# EAGLE library part S13B-XH (library con-jst-xh)
JST XH series header 2.50mm pitch disconnectable crimp style connectors, horizontal (side entry type), 135 pins
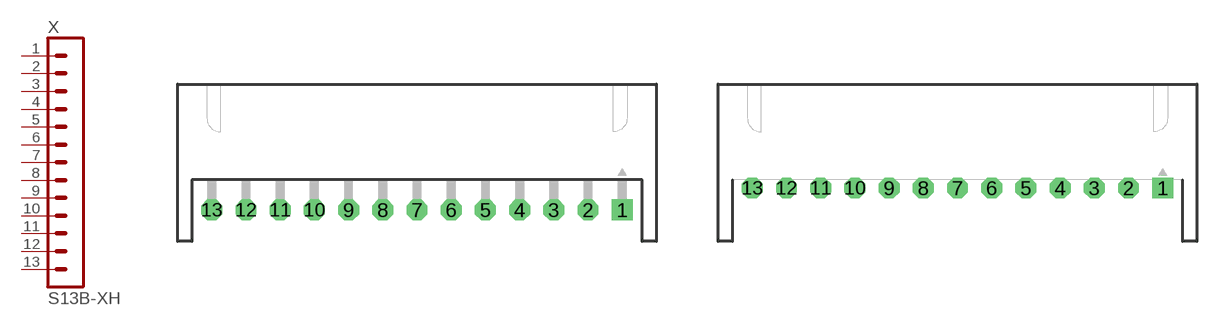
[diagram p19: symbol with the pads of S13B-XH-A; footprints S13B-XH-A, S13B-XH-A-1]

Designator prefix X

## S13B-XH-A  [S13B-XH-A]
1  1  pas
2  2  pas
3  3  pas
4  4  pas
5  5  pas
6  6  pas
7  7  pas
8  8  pas
9  9  pas
10  10  pas
11  11  pas
12  12  pas
13  13  pas

## S13B-XH-A-1  [S13B-XH-A-1]
Pads as for S13B-XH-A

## Footprint S13B-XH-A (pad centres in mm)
JST XH series header 2.50mm pitch disconnectable crimp style connectors, horizontal (side entry type), 13 pins
drill 0.9 pad 1.524 square: 1 15,0
drill 0.9 pad 1.524 octagon: 2 12.5,0; 3 10,0; 4 7.5,0; 5 5,0; 6 2.5,0; 7 0,0; 8 -2.5,0; 9 -5,0; 10 -7.5,0; 11 -10,0; 12 -12.5,0; 13 -15,0

## Footprint S13B-XH-A-1 (pad centres in mm)
JST XH series header 2.50mm pitch disconnectable crimp style connectors, horizontal (side entry type), 13 pins
drill 0.9 pad 1.524 square: 1 15,0
drill 0.9 pad 1.524 octagon: 2 12.5,0; 3 10,0; 4 7.5,0; 5 5,0; 6 2.5,0; 7 0,0; 8 -2.5,0; 9 -5,0; 10 -7.5,0; 11 -10,0; 12 -12.5,0; 13 -15,0